# EAGLE library part BALUN+LP_AT86RF (library microbuilder)
Balun + Low Pass Filter 0805 Johanson 0896FB15A0100 (AT86RF212) - 863-928 MHz Balun + Filter - Digikey: 712-1473-1-ND Johanson 2450FB15L0001 (AR86RF230/231) - 2400-2500 MHz Balun + Filter - Digikey: 712-1538-1-ND
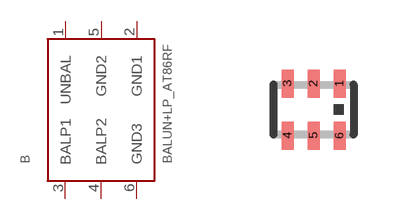
[diagram p49: symbol with the pads of BALUN0805; footprint BALUN0805]

Designator prefix B

## BALUN+LP_AT86RF  [BALUN0805]
1  UNBAL
2  GND1
3  BALP1
4  BALP2
5  GND2
6  GND3

## Footprint BALUN0805 (pad centres in mm)
smd 0.3 x 0.7: 1 0.65,0.65; 2 0,0.65; 3 -0.65,0.65; 4 -0.65,-0.65; 5 0,-0.65; 6 0.65,-0.65